# EAGLE library part LT1785 (library Jim)
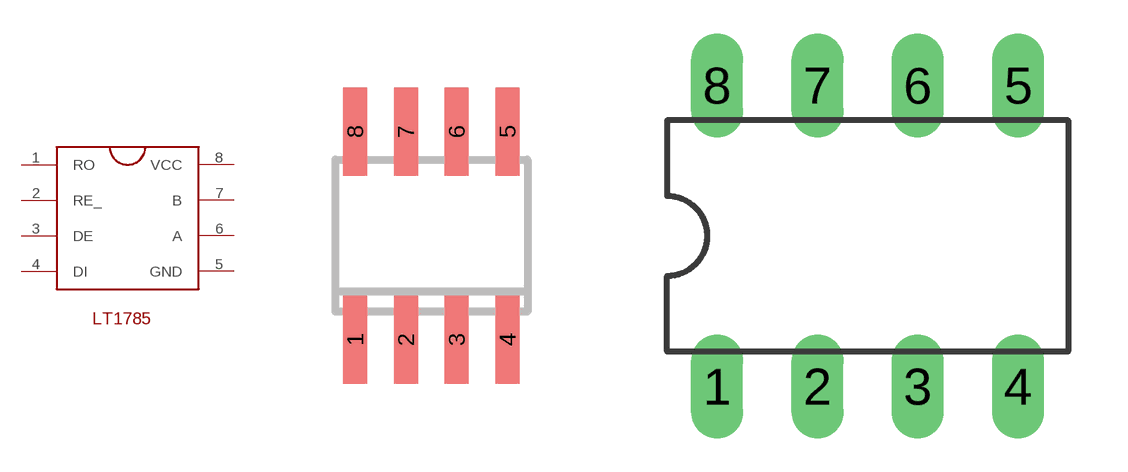
[diagram p1: symbol with the pads of SOIC-8; footprints SOIC-8, DIL08]

Designator prefix -

## LT1785SOIC-8  [SOIC-8]
1  RO
2  RE_
3  DE
4  DI
5  GND  pwr
6  A
7  B
8  VCC  pwr

## LT1785DIPWITHHOLES  [DIL08]
Pads as for SOIC-8

## Footprint SOIC-8 (pad centres in mm)
smd 0.6 x 2.2: 1 -1.905,-2.6; 2 -0.635,-2.6; 3 0.635,-2.6; 4 1.905,-2.6; 5 1.905,2.6; 6 0.635,2.6; 7 -0.635,2.6; 8 -1.905,2.6

## Footprint DIL08 (pad centres in mm)
Dual In Line Package
drill 0.813 long: 1 -3.81,-3.81; 2 -1.27,-3.81; 3 1.27,-3.81; 4 3.81,-3.81; 5 3.81,3.81; 6 1.27,3.81; 7 -1.27,3.81; 8 -3.81,3.81